# EAGLE library part 6180XX29221_61800929221 (library 618015233821_Eagle_WR-DSUB_rev20a)
WR-DSUB Male PCB Connector with Hex Screw Kind Properties Quality Class:3 as per CECC 75 301-802 Gender:Male Type:Straight Insulator Material:PBT Insulator Flammability Rating:UL94 V-0 Color:White Cover Material:Steel Cover Plating:Tin Contact Material:Copper Alloy Contact Plating:Gold Contact Type:Stamped General Information Operating Temperature:-55 up to +105 °C Compliance:RoHS Electrical Properties IR1:3 A Working Voltage:125 V (AC) Withstanding Voltage:1000 V (AC) Contact Resistance:30 mΩ <https://www.we-online.com/catalog/media/o33089v209%20Family_WR-DSUB_6180xx29221.jpg> Details see: https://www.we-online.com/catalog/en/DSUB_MALE_PCB_CONNECTOR_W_HEX_SCREW_6180XX29221/"https://www.we-online.com/catalog/en/DSUB_MALE_PCB_CONNECTOR_W_HEX_SCREW_6180XX29221/ Updated by Yingchun, Shan 2020-01-08 2020 (C) Würth Elektronik
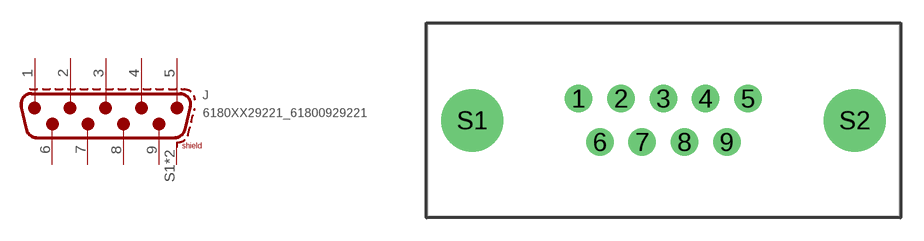
[diagram p46: symbol with the pads of 61800929221; footprint 61800929221]

Designator prefix J

## 6180XX29221_61800929221 (DATASHEET-URL: https://www.we-online.com/catalog/datasheet/61800929221.pdf; GENDER: Male; MATES-WITH: WR-DSUB 10.30 mm Female Angled PCB Connector w/o Hex Screw /Female IDC w. UNC 4-40 Nut /Female PCB Connector/Female Solder Bucket; PART-NUMBER: 61800929221; PINS: 9; TYPE: Straight; WE-NUMBER: 61800929221)  [61800929221]
1  1
2  2
3  3
4  4
5  5
6  6
7  7
8  8
9  9
S1  SHIELD
S2  SHIELD

## Footprint 61800929221 (pad centres in mm)
WR-DSUB Male PCB Connector with Hex Screw, 9 Pins
drill 1.2: 1 -5.55,1.42; 2 -2.78,1.42; 3 -0.01,1.42; 4 2.76,1.42; 5 5.53,1.42; 6 -4.165,-1.42; 7 -1.395,-1.42; 8 1.375,-1.42; 9 4.145,-1.42
drill 3.05: S1 -12.5,0; S2 12.5,0